# Altium integrated library Analog Devices Data Converters Digital-to-Analog Converters.IntLib: 2231 symbols (part 72 of 181)
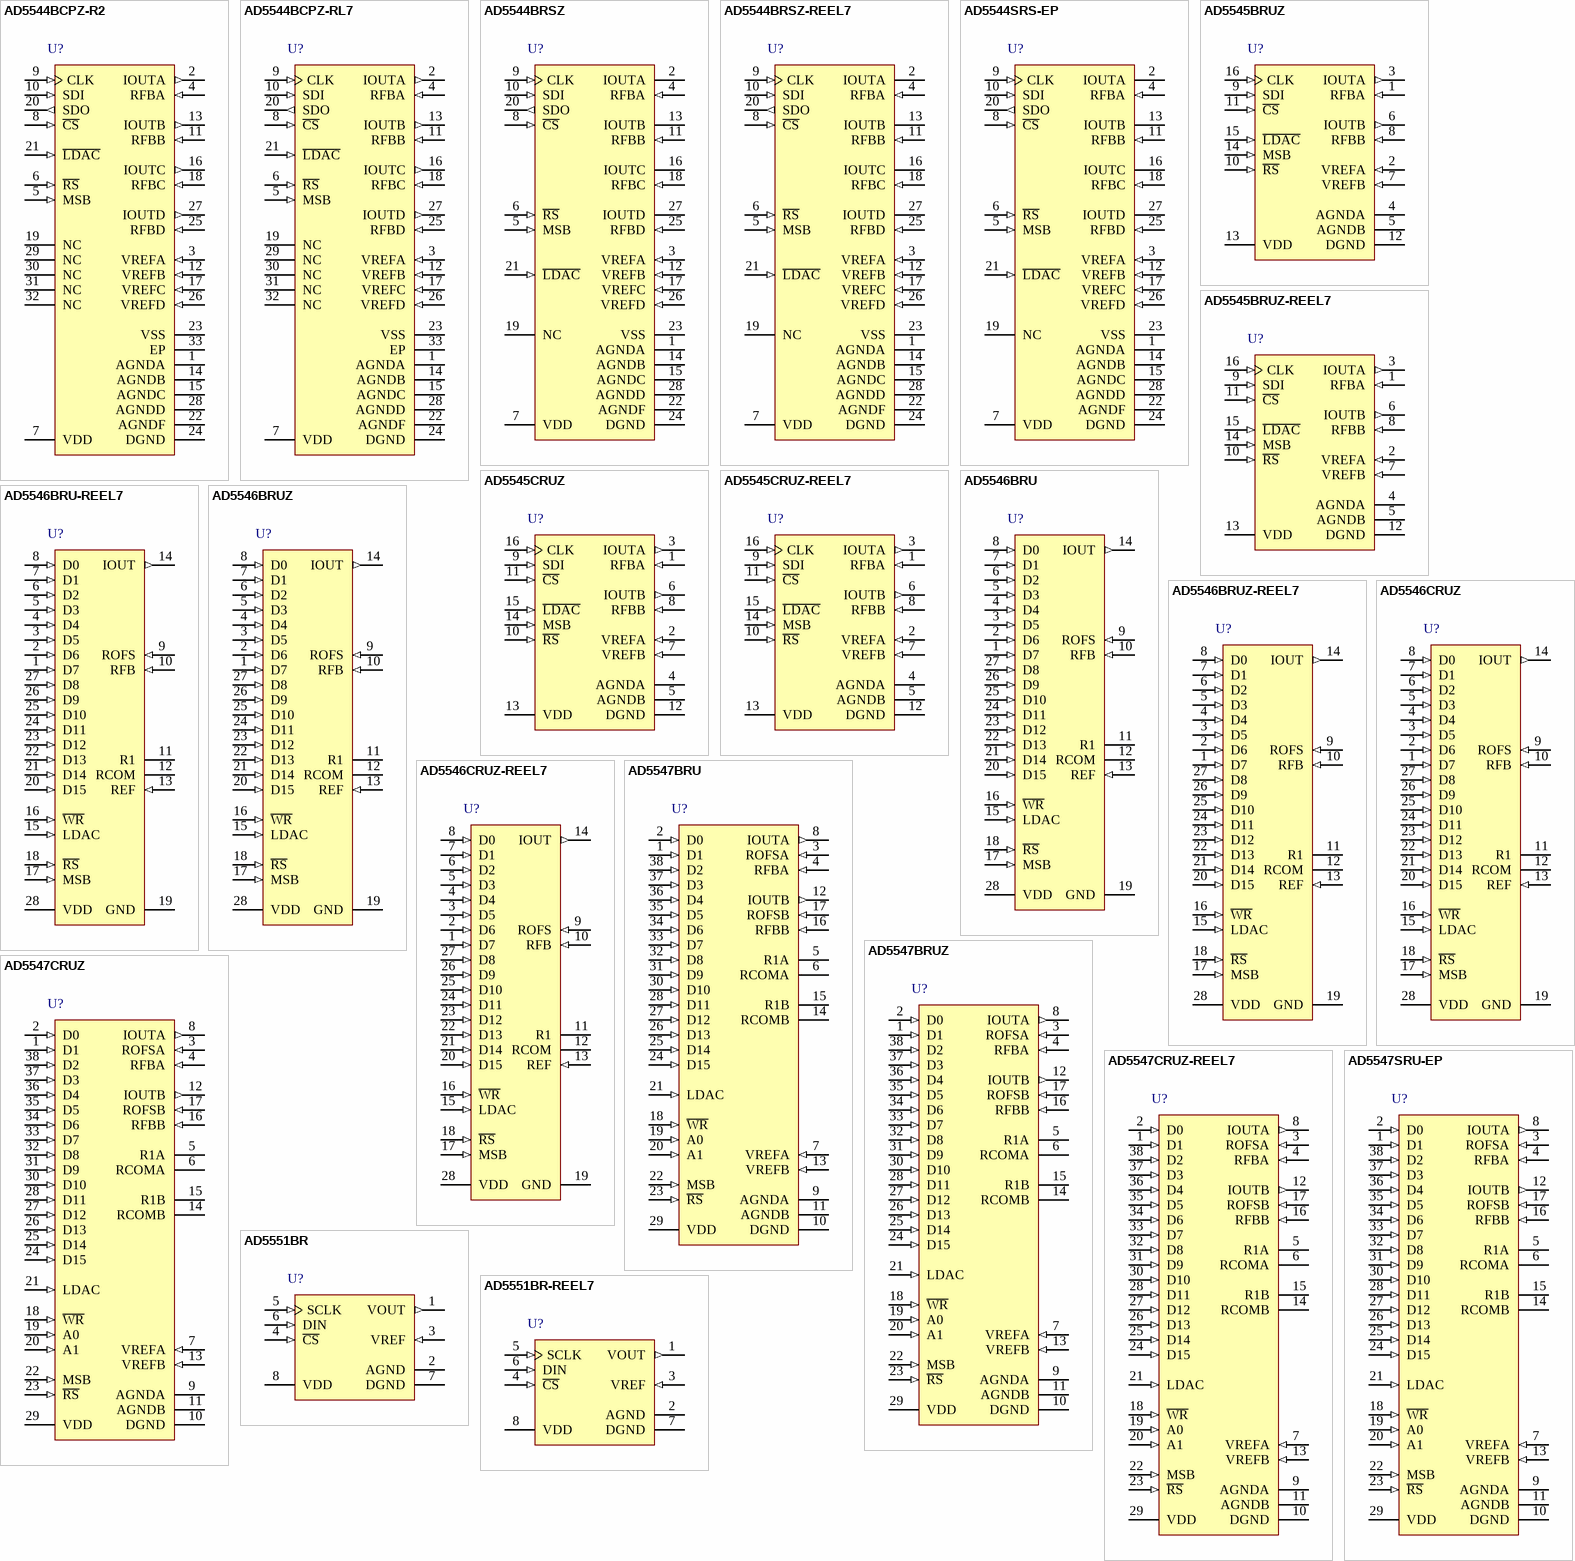
[diagram p185: symbols AD5544BCPZ-R2 to AD5551BR-REEL7]

## AD5544BCPZ-RL7
designator U?
Quad 16-Bit Digital-to-Analog Converter with Serial Interface, -40 to +125 degC, CP-32-11, Pb-Free, Reel; Generic Part Number: AD5544; Manufacturer: Analog Devices; PartNumber: AD5544BCPZ-RL7; # DAC Outputs: 4; Max V+: 5.5V; Op Pwr Diss: 1.25mW; Resolution (Bits): 16; Settling Time: 900ns; Single Supply: Yes; DatasheetVersion: Rev.F; PackageVersion: 011708-A; PackageReference: CP-32-11; PackageDescription: 32-Lead Lead Frame Chip Scale Package [LFCSP_VQ] 5 x 5 mm Body, Very Thin Quad; Supplier 1: Mouser; Supplier Part Number 1: N/A; Packing: Reel; RoHS: Y; Mounting Technology: Surface Mount; ComponentLink1Description: Manufacturer URL; ComponentLink1URL: http://www.analog.com/en/index.html; ComponentLink2Description: Datasheet; ComponentLink2URL: http://www.analog.com/static/imported-files/data_sheets/AD5544_5554.pdf; ComponentLink3Description: Package Specification; ComponentLink3URL: http://www.analog.com/static/imported-files/packages/PKG_PDF/LFCSP(CP)/CP-32/CP_32_11.pdf; ComponentLink4Description: Product URL; ComponentLink4URL: http://www.analog.com/en/digital-to-analog-converters/da-converters/ad5544/products/product.html
footprint CP-32-11_N (QFN, 32-Leads, Body 5x5mm, Pitch 0.5mm, Thermal Pad 3.6x3.6mm, IPC Medium Density)
footprint CP-32-11_L (QFN, 32-Leads, Body 5x5mm, Pitch 0.5mm, Thermal Pad 3.6x3.6mm, IPC High Density)
footprint CP-32-11_M (QFN, 32-Leads, Body 5x5mm, Pitch 0.5mm, Thermal Pad 3.6x3.6mm, IPC Low Density)
pins: 1 AGNDA (power) "DAC A Analog Ground.", 2 IOUTA (out) "DAC A Current Output.", 3 VREFA (in) "DAC A Reference Voltage Input Terminal. Establishes DAC A full-scale output voltage. This pin can be tied to the VDD pin.", 4 RFBA (in) "Establish the voltage output for DAC A by connecting to an external amplifier output.", 5 MSB (in) "MSB Bit. Set pin during a reset pulse (R\S\) or at system power-on if tied to ground or VDD.", 6 ~{RS} (in) "Reset Pin, Active Low Input. Input registers and DAC registers are set to all 0s or half-scale code (0x8000 for the AD5544 and 0x2000 for the AD5554), determined by the voltage on the MSB pin. Register data = 0x0000 when MSB (See Datasheet)", 7 VDD (power) "Positive Power Supply Input. Specified range of operation: 5 V +/- 10%.", 8 ~{CS} (in) "Chip Select, Active Low Input. Disables shift register loading when high. Transfers serial register data to the input register when C\S\/L\D\A\C\ returns high. Does not affect L\D\A\C\ operation.", 9 CLK (in) "Clock Input. Positive edge clocks data into the shift register.", 10 SDI (in) "Serial Data Input. Input data loads directly into the shift register.", 11 RFBB (in) "Establish the voltage output for DAC B by connecting to an external amplifier output.", 12 VREFB (in) "DAC B Reference Voltage Input Terminal. Establishes DAC B full-scale output voltage. This pin can be tied to the VDD pin.", 13 IOUTB (out) "DAC B Current Output.", 14 AGNDB (power) "DAC B Analog Ground.", 15 AGNDC (power) "DAC C Analog Ground.", 16 IOUTC (out) "DAC C Current Output.", 17 VREFC (in) "DAC C Reference Voltage Input Terminal. Establishes DAC C full-scale output voltage. This pin can be tied to the VDD pin.", 18 RFBC (in) "Establish the voltage output for DAC C by connecting to an external amplifier output.", 19 NC "No Connect. Leave the pin unconnected.", 20 SDO (out) "Serial Data Output. Input data loads directly into the shift register. Data appears at SDO at 19 clock pulses for the AD5544 and 17 clock pulses for the AD5554 after input at the SDI pin.", 21 ~{LDAC} (in) "Load DAC Register Strobe, Level Sensitive Active Low. Transfers all input register data to DAC registers. Asynchronous active low input. See Table 8 and Table 9 for operation.", 22 AGNDF (power) "High Current Analog Force Ground.", 23 VSS (power) "Negative Bias Power Supply Input. Specified range of operation: -5.5 V to +0.3 V.", 24 DGND (power) "Digital Ground Pin.", 25 RFBD (in) "Establish the voltage output for DAC D by connecting to an external amplifier output.", 26 VREFD (in) "DAC D Reference Voltage Input Terminal. Establishes DAC D full-scale output voltage. This pin can be tied to the VDD pin.", 27 IOUTD (out) "DAC D Current Output.", 28 AGNDD (power) "DAC D Analog Ground.", 29 NC "Do not connect.", 30 NC "Do not connect.", 31 NC "Do not connect.", 32 NC "Do not connect.", 33 EP (power) "Connect the exposed pad to AGNDx."

## AD5544BRSZ
designator U?
Quad 16-Bit Digital-to-Analog Converter with Serial Interface, -40 to +125 degC, RS-28, Pb-Free, Tube; Generic Part Number: AD5544; Manufacturer: Analog Devices; PartNumber: AD5544BRSZ; # DAC Outputs: 4; Max V+: 5.5V; Op Pwr Diss: 1.25mW; Resolution (Bits): 16; Settling Time: 900ns; Single Supply: Yes; DatasheetVersion: Rev.F; PackageVersion: 060106-A; PackageReference: RS-28; PackageDescription: 28-Lead Shrink Small Outline Package [SSOP]; Supplier 1: Digi-Key; Supplier Part Number 1: AD5544BRSZ-ND; Supplier 2: Newark; Supplier Part Number 2: 51R0720; Supplier 3: Mouser; Supplier Part Number 3: 584-AD5544BRSZ; Packing: Tube; RoHS: Y; Mounting Technology: Surface Mount; Code_JEDEC: MO-150-AH; ComponentLink1Description: Manufacturer URL; ComponentLink1URL: http://www.analog.com/en/index.html; ComponentLink2Description: Datasheet; ComponentLink2URL: http://www.analog.com/static/imported-files/data_sheets/AD5544_5554.pdf; ComponentLink3Description: Package Specification; ComponentLink3URL: http://www.analog.com/static/imported-files/packages/32122249223724RS_28.pdf; ComponentLink4Description: Product URL; ComponentLink4URL: http://www.analog.com/en/digital-to-analog-converters/da-converters/ad5544/products/product.html
footprint RS-28_N (SOP, 28-Leads, Body 10.2x5.3mm, Pitch 0.65mm, IPC Medium Density)
footprint RS-28_L (SOP, 28-Leads, Body 10.2x5.3mm, Pitch 0.65mm, IPC High Density)
footprint RS-28_M (SOP, 28-Leads, Body 10.2x5.3mm, Pitch 0.65mm, IPC Low Density)
pins: 1 AGNDA (power) "DAC A Analog Ground.", 2 IOUTA "DAC A Current Output.", 3 VREFA (in) "DAC A Reference Voltage Input Terminal. Establishes DAC A full-scale output voltage. This pin can be tied to the VDD pin.", 4 RFBA (in) "Establish the voltage output for DAC A by connecting to an external amplifier output.", 5 MSB (in) "MSB Bit. Set pin during a reset pulse (R\S\) or at system power-on if tied to ground or VDD.", 6 ~{RS} (in) "Reset Pin, Active Low Input. Input registers and DAC registers are set to all 0s or half-scale code (0x8000 for the AD5544 and 0x2000 for the AD5554), determined by the voltage on the MSB pin. Register data = 0x0000 when MSB (See Datasheet)", 7 VDD (power) "Positive Power Supply Input. Specified range of operation: 5 V +/- 10%.", 8 ~{CS} (in) "Chip Select, Active Low Input. Disables shift register loading when high. Transfers serial register data to the input register when C\S\/L\D\A\C\ returns high. Does not affect L\D\A\C\ operation.", 9 CLK (in) "Clock Input. Positive edge clocks data into the shift register.", 10 SDI (in) "Serial Data Input. Input data loads directly into the shift register", 11 RFBB (in) "Establish the voltage output for DAC B by connecting to an external amplifier output.", 12 VREFB (in) "DAC B Reference Voltage Input Terminal. Establishes DAC B full-scale output voltage. This pin can be tied to the VDD pin.", 13 IOUTB "DAC B Current Output.", 14 AGNDB (power) "DAC B Analog Ground.", 15 AGNDC (power) "DAC C Analog Ground.", 16 IOUTC "DAC C Current Output.", 17 VREFC (in) "DAC C Reference Voltage Input Terminal. Establishes DAC C full-scale output voltage. This pin can be tied to the VDD pin.", 18 RFBC (in) "Establish the voltage output for DAC C by connecting to an external amplifier output", 19 NC "No Connect. Leave the pin unconnected.", 20 SDO (out) "Serial Data Output. Input data loads directly into the shift register. Data appears at SDO at 19 clock pulses for the AD5544 and 17 clock pulses for the AD5554 after input at the SDI pin.", 21 ~{LDAC} (in) "Load DAC Register Strobe, Level Sensitive Active Low. Transfers all input register data to DAC registers. Asynchronous active low input. See Table 8 and Table 9 for operation.", 22 AGNDF (power) "High Current Analog Force Ground.", 23 VSS (power) "Negative Bias Power Supply Input. Specified range of operation: -5.5 V to +0.3 V.", 24 DGND (power) "Digital Ground Pin.", 25 RFBD (in) "Establish the voltage output for DAC D by connecting to an external amplifier output.", 26 VREFD (in) "DAC D Reference Voltage Input Terminal. Establishes DAC D full-scale output voltage. This pin can be tied to the VDD pin.", 27 IOUTD "DAC D Current Output.", 28 AGNDD (power) "DAC D Analog Ground."

## AD5544BRSZ-REEL7
designator U?
Quad 16-Bit Digital-to-Analog Converter with Serial Interface, -40 to +125 degC, RS-28, Pb-Free, Reel; Generic Part Number: AD5544; Manufacturer: Analog Devices; PartNumber: AD5544BRSZ-REEL7; # DAC Outputs: 4; Max V+: 5.5V; Op Pwr Diss: 1.25mW; Resolution (Bits): 16; Settling Time: 900ns; Single Supply: Yes; DatasheetVersion: Rev.F; PackageVersion: 060106-A; PackageReference: RS-28; PackageDescription: 28-Lead Shrink Small Outline Package [SSOP]; Supplier 1: Digi-Key; Supplier Part Number 1: AD5544BRSZ-REEL7-ND; Supplier 2: Newark; Supplier Part Number 2: 51R0721; Supplier 3: Mouser; Supplier Part Number 3: 584-AD5544BRSZ-R7; Packing: Reel; RoHS: Y; Mounting Technology: Surface Mount; Code_JEDEC: MO-150-AH; ComponentLink1Description: Manufacturer URL; ComponentLink1URL: http://www.analog.com/en/index.html; ComponentLink2Description: Datasheet; ComponentLink2URL: http://www.analog.com/static/imported-files/data_sheets/AD5544_5554.pdf; ComponentLink3Description: Package Specification; ComponentLink3URL: http://www.analog.com/static/imported-files/packages/32122249223724RS_28.pdf; ComponentLink4Description: Product URL; ComponentLink4URL: http://www.analog.com/en/digital-to-analog-converters/da-converters/ad5544/products/product.html
footprint RS-28_N (SOP, 28-Leads, Body 10.2x5.3mm, Pitch 0.65mm, IPC Medium Density)
footprint RS-28_L (SOP, 28-Leads, Body 10.2x5.3mm, Pitch 0.65mm, IPC High Density)
footprint RS-28_M (SOP, 28-Leads, Body 10.2x5.3mm, Pitch 0.65mm, IPC Low Density)
pins: 1 AGNDA (power) "DAC A Analog Ground.", 2 IOUTA "DAC A Current Output.", 3 VREFA (in) "DAC A Reference Voltage Input Terminal. Establishes DAC A full-scale output voltage. This pin can be tied to the VDD pin.", 4 RFBA (in) "Establish the voltage output for DAC A by connecting to an external amplifier output.", 5 MSB (in) "MSB Bit. Set pin during a reset pulse (R\S\) or at system power-on if tied to ground or VDD.", 6 ~{RS} (in) "Reset Pin, Active Low Input. Input registers and DAC registers are set to all 0s or half-scale code (0x8000 for the AD5544 and 0x2000 for the AD5554), determined by the voltage on the MSB pin. Register data = 0x0000 when MSB (See Datasheet)", 7 VDD (power) "Positive Power Supply Input. Specified range of operation: 5 V +/- 10%.", 8 ~{CS} (in) "Chip Select, Active Low Input. Disables shift register loading when high. Transfers serial register data to the input register when C\S\/L\D\A\C\ returns high. Does not affect L\D\A\C\ operation.", 9 CLK (in) "Clock Input. Positive edge clocks data into the shift register.", 10 SDI (in) "Serial Data Input. Input data loads directly into the shift register", 11 RFBB (in) "Establish the voltage output for DAC B by connecting to an external amplifier output.", 12 VREFB (in) "DAC B Reference Voltage Input Terminal. Establishes DAC B full-scale output voltage. This pin can be tied to the VDD pin.", 13 IOUTB "DAC B Current Output.", 14 AGNDB (power) "DAC B Analog Ground.", 15 AGNDC (power) "DAC C Analog Ground.", 16 IOUTC "DAC C Current Output.", 17 VREFC (in) "DAC C Reference Voltage Input Terminal. Establishes DAC C full-scale output voltage. This pin can be tied to the VDD pin.", 18 RFBC (in) "Establish the voltage output for DAC C by connecting to an external amplifier output", 19 NC "No Connect. Leave the pin unconnected.", 20 SDO (out) "Serial Data Output. Input data loads directly into the shift register. Data appears at SDO at 19 clock pulses for the AD5544 and 17 clock pulses for the AD5554 after input at the SDI pin.", 21 ~{LDAC} (in) "Load DAC Register Strobe, Level Sensitive Active Low. Transfers all input register data to DAC registers. Asynchronous active low input. See Table 8 and Table 9 for operation.", 22 AGNDF (power) "High Current Analog Force Ground.", 23 VSS (power) "Negative Bias Power Supply Input. Specified range of operation: -5.5 V to +0.3 V.", 24 DGND (power) "Digital Ground Pin.", 25 RFBD (in) "Establish the voltage output for DAC D by connecting to an external amplifier output.", 26 VREFD (in) "DAC D Reference Voltage Input Terminal. Establishes DAC D full-scale output voltage. This pin can be tied to the VDD pin.", 27 IOUTD "DAC D Current Output.", 28 AGNDD (power) "DAC D Analog Ground."

## AD5544SRS-EP
designator U?
Quad 16-Bit Digital-to-Analog Converter with Serial Interface, -55 to +125 degC, RS-28, Tube; Generic Part Number: AD5544; Manufacturer: Analog Devices; PartNumber: AD5544SRS-EP; # DAC Outputs: 4; Max V+: 5.5V; Op Pwr Diss: 1.25mW; Resolution (Bits): 16; Settling Time: 900ns; Single Supply: Yes; DatasheetVersion: Rev.0; PackageVersion: 060106-A; PackageReference: RS-28; PackageDescription: 28-Lead Shrink Small Outline Package [SSOP]; Supplier 1: Digi-Key; Supplier Part Number 1: AD5544SRS-EP-ND; Supplier 2: Mouser; Supplier Part Number 2: 584-AD5544SRS-EP; Packing: Tube; RoHS: N; Mounting Technology: Surface Mount; Code_JEDEC: MO-150-AH; ComponentLink1Description: Manufacturer URL; ComponentLink1URL: http://www.analog.com/en/index.html; ComponentLink2Description: Datasheet; ComponentLink2URL: http://www.analog.com/static/imported-files/data_sheets/AD5544-EP.pdf; ComponentLink3Description: Package Specification; ComponentLink3URL: http://www.analog.com/static/imported-files/packages/32122249223724RS_28.pdf; ComponentLink4Description: Product URL; ComponentLink4URL: http://www.analog.com/en/digital-to-analog-converters/da-converters/ad5544/products/product.html
footprint RS-28_N (SOP, 28-Leads, Body 10.2x5.3mm, Pitch 0.65mm, IPC Medium Density)
footprint RS-28_L (SOP, 28-Leads, Body 10.2x5.3mm, Pitch 0.65mm, IPC High Density)
footprint RS-28_M (SOP, 28-Leads, Body 10.2x5.3mm, Pitch 0.65mm, IPC Low Density)
pins: 1 AGNDA (power) "DAC A Analog Ground.", 2 IOUTA "DAC A Current Output.", 3 VREFA (in) "DAC A Reference Voltage Input Terminal. Establishes DAC A full-scale output voltage. This pin can be tied to the VDD pin.", 4 RFBA (in) "Establish the voltage output for DAC A by connecting to an external amplifier output.", 5 MSB (in) "MSB Bit. Set pin during a reset pulse (R\S\) or at system power-on if tied to ground or VDD.", 6 ~{RS} (in) "Reset Pin, Active Low Input. Input registers and DAC registers are set to all 0s or half-scale code (0x8000 for the AD5544 and 0x2000 for the AD5554), determined by the voltage on the MSB pin. Register data = 0x0000 when MSB (See Datasheet)", 7 VDD (power) "Positive Power Supply Input. Specified range of operation: 5 V +/- 10%.", 8 ~{CS} (in) "Chip Select, Active Low Input. Disables shift register loading when high. Transfers serial register data to the input register when C\S\/L\D\A\C\ returns high. Does not affect L\D\A\C\ operation.", 9 CLK (in) "Clock Input. Positive edge clocks data into the shift register.", 10 SDI (in) "Serial Data Input. Input data loads directly into the shift register", 11 RFBB (in) "Establish the voltage output for DAC B by connecting to an external amplifier output.", 12 VREFB (in) "DAC B Reference Voltage Input Terminal. Establishes DAC B full-scale output voltage. This pin can be tied to the VDD pin.", 13 IOUTB "DAC B Current Output.", 14 AGNDB (power) "DAC B Analog Ground.", 15 AGNDC (power) "DAC C Analog Ground.", 16 IOUTC "DAC C Current Output.", 17 VREFC (in) "DAC C Reference Voltage Input Terminal. Establishes DAC C full-scale output voltage. This pin can be tied to the VDD pin.", 18 RFBC (in) "Establish the voltage output for DAC C by connecting to an external amplifier output", 19 NC "No Connect. Leave the pin unconnected.", 20 SDO (out) "Serial Data Output. Input data loads directly into the shift register. Data appears at SDO at 19 clock pulses for the AD5544 and 17 clock pulses for the AD5554 after input at the SDI pin.", 21 ~{LDAC} (in) "Load DAC Register Strobe, Level Sensitive Active Low. Transfers all input register data to DAC registers. Asynchronous active low input. See Table 8 and Table 9 for operation.", 22 AGNDF (power) "High Current Analog Force Ground.", 23 VSS (power) "Negative Bias Power Supply Input. Specified range of operation: -5.5 V to +0.3 V.", 24 DGND (power) "Digital Ground Pin.", 25 RFBD (in) "Establish the voltage output for DAC D by connecting to an external amplifier output.", 26 VREFD (in) "DAC D Reference Voltage Input Terminal. Establishes DAC D full-scale output voltage. This pin can be tied to the VDD pin.", 27 IOUTD "DAC D Current Output.", 28 AGNDD (power) "DAC D Analog Ground."

## AD5545BRUZ
designator U?
Dual 16-Bit Digital-to-Analog Converter with Serial Interface, -40 to +85 degC, RU-16, Pb-Free, Tube; Generic Part Number: AD5545; Manufacturer: Analog Devices; PartNumber: AD5545BRUZ; # DAC Outputs: 2; Max V+: 5.5V; Op Pwr Diss: 55µW; Resolution (Bits): 16; Settling Time: 500ns; Single Supply: Yes; DatasheetVersion: Rev.E; PackageVersion: Nov-2002; PackageReference: RU-16; PackageDescription: 16-Lead Thin Shrink Small Outline Package [TSSOP]; Supplier 1: Digi-Key; Supplier Part Number 1: AD5545BRUZ-ND; Supplier 2: Farnell; Supplier Part Number 2: 2305674; Supplier 3: Newark; Supplier Part Number 3: 84W7401; Supplier 4: Newark; Supplier Part Number 4: 28M3992; Supplier 5: Mouser; Supplier Part Number 5: 584-AD5545BRUZ; Packing: Tube; RoHS: Y; Mounting Technology: Surface Mount; Code_JEDEC: MO-153-AB; ComponentLink1Description: Manufacturer URL; ComponentLink1URL: http://www.analog.com/en/index.html; ComponentLink2Description: Datasheet; ComponentLink2URL: http://www.analog.com/static/imported-files/data_sheets/AD5545_5555.pdf; ComponentLink3Description: Package Specification; ComponentLink3URL: http://www.analog.com/static/imported-files/packages/36244347913743854010197452789RU16.pdf; ComponentLink4Description: Product URL; ComponentLink4URL: http://www.analog.com/en/digital-to-analog-converters/da-converters/ad5545/products/product.html
footprint RU-16_N (TSOP, 16-Leads, Body 5x4.4mm, Pitch 0.65mm, IPC Medium Density)
footprint RU-16_L (TSOP, 16-Leads, Body 5x4.4mm, Pitch 0.65mm, IPC High Density)
footprint RU-16_M (TSOP, 16-Leads, Body 5x4.4mm, Pitch 0.65mm, IPC Low Density)
pins: 1 RFBA (in) "Establish voltage output for DAC A by connecting this pin to an external amplifier output", 2 VREFA (in) "DAC A Reference Voltage Input Terminal. Establishes DAC A full-scale output voltage. This pin can be tied to the VDD pin.", 3 IOUTA (out) "DAC A Current Output.", 4 AGNDA (power) "DAC A Analog Ground.", 5 AGNDB (power) "DAC B Analog Ground.", 6 IOUTB (out) "DAC B Current Output.", 7 VREFB (in) "DAC B Reference Voltage Input Terminal. Establishes DAC B full-scale output voltage. This pin can be tied to the VDD pin.", 8 RFBB (in) "Establish voltage output for DAC B by the RFBB pin connecting to an external amplifier output.", 9 SDI (in) "Serial Data Input. Input data loads directly into the shift register.", 10 ~{RS} (in) "Reset Pin, Active Low Input. Input registers and DAC registers are set to all 0s or midscale. Register Data = 0x0000 when MSB = 0. Register Data = 0x8000 for AD5545 and 0x2000 for AD5555 when MSB = 1.", 11 ~{CS} (in) "Chip Select, Active Low Input. Disables shift register loading when high. Transfers serial register data to the input register when C\S\/L\D\A\C\ returns high. This does not affect L\D\A\C\ operation.", 12 DGND (power) "Digital Ground Pin.", 13 VDD (power) "Positive Power Supply Input. Specified range of operation 5 V +/- 10% or 3 V +/- 10%.", 14 MSB (in) "MSB bit sets output to either 0 or midscale during a RESET pulse (R\S\) or at system power-on. Output equals zero scale when MSB = 0 and midscale when MSB = 1. MSB pin can also be tied permanently to ground or VDD.", 15 ~{LDAC} (in) "Load DAC Register Strobe, Level Sensitive Active Low. Transfers all input register data to DAC registers. Asynchronous active low input. See Table 7 and Table 8 for operation.", 16 CLK (in) "Clock Input. Positive edge clocks data into shift register"

## AD5545BRUZ-REEL7
designator U?
Dual 16-Bit Digital-to-Analog Converter with Serial Interface, -40 to +85 degC, RU-16, Pb-Free, Reel; Generic Part Number: AD5545; Manufacturer: Analog Devices; PartNumber: AD5545BRUZ-REEL7; # DAC Outputs: 2; Max V+: 5.5V; Op Pwr Diss: 55µW; Resolution (Bits): 16; Settling Time: 500ns; Single Supply: Yes; DatasheetVersion: Rev.E; PackageVersion: Nov-2002; PackageReference: RU-16; PackageDescription: 16-Lead Thin Shrink Small Outline Package [TSSOP]; Supplier 1: Digi-Key; Supplier Part Number 1: AD5545BRUZ-REEL7-ND; Supplier 2: Newark; Supplier Part Number 2: 28M3993; Supplier 3: Mouser; Supplier Part Number 3: 584-AD5545BRUZ-R7; Packing: Reel; RoHS: Y; Mounting Technology: Surface Mount; Code_JEDEC: MO-153-AB; ComponentLink1Description: Manufacturer URL; ComponentLink1URL: http://www.analog.com/en/index.html; ComponentLink2Description: Datasheet; ComponentLink2URL: http://www.analog.com/static/imported-files/data_sheets/AD5545_5555.pdf; ComponentLink3Description: Package Specification; ComponentLink3URL: http://www.analog.com/static/imported-files/packages/36244347913743854010197452789RU16.pdf; ComponentLink4Description: Product URL; ComponentLink4URL: http://www.analog.com/en/digital-to-analog-converters/da-converters/ad5545/products/product.html
footprint RU-16_N (TSOP, 16-Leads, Body 5x4.4mm, Pitch 0.65mm, IPC Medium Density)
footprint RU-16_L (TSOP, 16-Leads, Body 5x4.4mm, Pitch 0.65mm, IPC High Density)
footprint RU-16_M (TSOP, 16-Leads, Body 5x4.4mm, Pitch 0.65mm, IPC Low Density)
pins: 1 RFBA (in) "Establish voltage output for DAC A by connecting this pin to an external amplifier output", 2 VREFA (in) "DAC A Reference Voltage Input Terminal. Establishes DAC A full-scale output voltage. This pin can be tied to the VDD pin.", 3 IOUTA (out) "DAC A Current Output.", 4 AGNDA (power) "DAC A Analog Ground.", 5 AGNDB (power) "DAC B Analog Ground.", 6 IOUTB (out) "DAC B Current Output.", 7 VREFB (in) "DAC B Reference Voltage Input Terminal. Establishes DAC B full-scale output voltage. This pin can be tied to the VDD pin.", 8 RFBB (in) "Establish voltage output for DAC B by the RFBB pin connecting to an external amplifier output.", 9 SDI (in) "Serial Data Input. Input data loads directly into the shift register.", 10 ~{RS} (in) "Reset Pin, Active Low Input. Input registers and DAC registers are set to all 0s or midscale. Register Data = 0x0000 when MSB = 0. Register Data = 0x8000 for AD5545 and 0x2000 for AD5555 when MSB = 1.", 11 ~{CS} (in) "Chip Select, Active Low Input. Disables shift register loading when high. Transfers serial register data to the input register when C\S\/L\D\A\C\ returns high. This does not affect L\D\A\C\ operation.", 12 DGND (power) "Digital Ground Pin.", 13 VDD (power) "Positive Power Supply Input. Specified range of operation 5 V +/- 10% or 3 V +/- 10%.", 14 MSB (in) "MSB bit sets output to either 0 or midscale during a RESET pulse (R\S\) or at system power-on. Output equals zero scale when MSB = 0 and midscale when MSB = 1. MSB pin can also be tied permanently to ground or VDD.", 15 ~{LDAC} (in) "Load DAC Register Strobe, Level Sensitive Active Low. Transfers all input register data to DAC registers. Asynchronous active low input. See Table 7 and Table 8 for operation.", 16 CLK (in) "Clock Input. Positive edge clocks data into shift register"

## AD5545CRUZ
designator U?
Dual 16-Bit Digital-to-Analog Converter with Serial Interface, -40 to +85 degC, RU-16, Pb-Free, Tube; Generic Part Number: AD5545; Manufacturer: Analog Devices; PartNumber: AD5545CRUZ; # DAC Outputs: 2; Max V+: 5.5V; Op Pwr Diss: 55µW; Resolution (Bits): 16; Settling Time: 500ns; Single Supply: Yes; DatasheetVersion: Rev.E; PackageVersion: Nov-2002; PackageReference: RU-16; PackageDescription: 16-Lead Thin Shrink Small Outline Package [TSSOP]; Supplier 1: Digi-Key; Supplier Part Number 1: AD5545CRUZ-ND; Supplier 2: Farnell; Supplier Part Number 2: 2192230; Supplier 3: Newark; Supplier Part Number 3: 51R0722; Supplier 4: Mouser; Supplier Part Number 4: 584-AD5545CRUZ; Packing: Tube; RoHS: Y; Mounting Technology: Surface Mount; Code_JEDEC: MO-153-AB; ComponentLink1Description: Manufacturer URL; ComponentLink1URL: http://www.analog.com/en/index.html; ComponentLink2Description: Datasheet; ComponentLink2URL: http://www.analog.com/static/imported-files/data_sheets/AD5545_5555.pdf; ComponentLink3Description: Package Specification; ComponentLink3URL: http://www.analog.com/static/imported-files/packages/36244347913743854010197452789RU16.pdf; ComponentLink4Description: Product URL; ComponentLink4URL: http://www.analog.com/en/digital-to-analog-converters/da-converters/ad5545/products/product.html
footprint RU-16_N (TSOP, 16-Leads, Body 5x4.4mm, Pitch 0.65mm, IPC Medium Density)
footprint RU-16_L (TSOP, 16-Leads, Body 5x4.4mm, Pitch 0.65mm, IPC High Density)
footprint RU-16_M (TSOP, 16-Leads, Body 5x4.4mm, Pitch 0.65mm, IPC Low Density)
pins: 1 RFBA (in) "Establish voltage output for DAC A by connecting this pin to an external amplifier output", 2 VREFA (in) "DAC A Reference Voltage Input Terminal. Establishes DAC A full-scale output voltage. This pin can be tied to the VDD pin.", 3 IOUTA (out) "DAC A Current Output.", 4 AGNDA (power) "DAC A Analog Ground.", 5 AGNDB (power) "DAC B Analog Ground.", 6 IOUTB (out) "DAC B Current Output.", 7 VREFB (in) "DAC B Reference Voltage Input Terminal. Establishes DAC B full-scale output voltage. This pin can be tied to the VDD pin.", 8 RFBB (in) "Establish voltage output for DAC B by the RFBB pin connecting to an external amplifier output.", 9 SDI (in) "Serial Data Input. Input data loads directly into the shift register.", 10 ~{RS} (in) "Reset Pin, Active Low Input. Input registers and DAC registers are set to all 0s or midscale. Register Data = 0x0000 when MSB = 0. Register Data = 0x8000 for AD5545 and 0x2000 for AD5555 when MSB = 1.", 11 ~{CS} (in) "Chip Select, Active Low Input. Disables shift register loading when high. Transfers serial register data to the input register when C\S\/L\D\A\C\ returns high. This does not affect L\D\A\C\ operation.", 12 DGND (power) "Digital Ground Pin.", 13 VDD (power) "Positive Power Supply Input. Specified range of operation 5 V +/- 10% or 3 V +/- 10%.", 14 MSB (in) "MSB bit sets output to either 0 or midscale during a RESET pulse (R\S\) or at system power-on. Output equals zero scale when MSB = 0 and midscale when MSB = 1. MSB pin can also be tied permanently to ground or VDD.", 15 ~{LDAC} (in) "Load DAC Register Strobe, Level Sensitive Active Low. Transfers all input register data to DAC registers. Asynchronous active low input. See Table 7 and Table 8 for operation.", 16 CLK (in) "Clock Input. Positive edge clocks data into shift register"

## AD5545CRUZ-REEL7
designator U?
Dual 16-Bit Digital-to-Analog Converter with Serial Interface, -40 to +85 degC, RU-16, Pb-Free, Reel; Generic Part Number: AD5545; Manufacturer: Analog Devices; PartNumber: AD5545CRUZ-REEL7; # DAC Outputs: 2; Max V+: 5.5V; Op Pwr Diss: 55µW; Resolution (Bits): 16; Settling Time: 500ns; Single Supply: Yes; DatasheetVersion: Rev.E; PackageVersion: Nov-2002; PackageReference: RU-16; PackageDescription: 16-Lead Thin Shrink Small Outline Package [TSSOP]; Supplier 1: Digi-Key; Supplier Part Number 1: AD5545CRUZ-REEL7-ND; Supplier 2: Mouser; Supplier Part Number 2: 584-AD5545CRUZ-R7; Packing: Reel; RoHS: Y; Mounting Technology: Surface Mount; Code_JEDEC: MO-153-AB; ComponentLink1Description: Manufacturer URL; ComponentLink1URL: http://www.analog.com/en/index.html; ComponentLink2Description: Datasheet; ComponentLink2URL: http://www.analog.com/static/imported-files/data_sheets/AD5545_5555.pdf; ComponentLink3Description: Package Specification; ComponentLink3URL: http://www.analog.com/static/imported-files/packages/36244347913743854010197452789RU16.pdf; ComponentLink4Description: Product URL; ComponentLink4URL: http://www.analog.com/en/digital-to-analog-converters/da-converters/ad5545/products/product.html
footprint RU-16_N (TSOP, 16-Leads, Body 5x4.4mm, Pitch 0.65mm, IPC Medium Density)
footprint RU-16_L (TSOP, 16-Leads, Body 5x4.4mm, Pitch 0.65mm, IPC High Density)
footprint RU-16_M (TSOP, 16-Leads, Body 5x4.4mm, Pitch 0.65mm, IPC Low Density)
pins: 1 RFBA (in) "Establish voltage output for DAC A by connecting this pin to an external amplifier output", 2 VREFA (in) "DAC A Reference Voltage Input Terminal. Establishes DAC A full-scale output voltage. This pin can be tied to the VDD pin.", 3 IOUTA (out) "DAC A Current Output.", 4 AGNDA (power) "DAC A Analog Ground.", 5 AGNDB (power) "DAC B Analog Ground.", 6 IOUTB (out) "DAC B Current Output.", 7 VREFB (in) "DAC B Reference Voltage Input Terminal. Establishes DAC B full-scale output voltage. This pin can be tied to the VDD pin.", 8 RFBB (in) "Establish voltage output for DAC B by the RFBB pin connecting to an external amplifier output.", 9 SDI (in) "Serial Data Input. Input data loads directly into the shift register.", 10 ~{RS} (in) "Reset Pin, Active Low Input. Input registers and DAC registers are set to all 0s or midscale. Register Data = 0x0000 when MSB = 0. Register Data = 0x8000 for AD5545 and 0x2000 for AD5555 when MSB = 1.", 11 ~{CS} (in) "Chip Select, Active Low Input. Disables shift register loading when high. Transfers serial register data to the input register when C\S\/L\D\A\C\ returns high. This does not affect L\D\A\C\ operation.", 12 DGND (power) "Digital Ground Pin.", 13 VDD (power) "Positive Power Supply Input. Specified range of operation 5 V +/- 10% or 3 V +/- 10%.", 14 MSB (in) "MSB bit sets output to either 0 or midscale during a RESET pulse (R\S\) or at system power-on. Output equals zero scale when MSB = 0 and midscale when MSB = 1. MSB pin can also be tied permanently to ground or VDD.", 15 ~{LDAC} (in) "Load DAC Register Strobe, Level Sensitive Active Low. Transfers all input register data to DAC registers. Asynchronous active low input. See Table 7 and Table 8 for operation.", 16 CLK (in) "Clock Input. Positive edge clocks data into shift register"

## AD5546BRU
designator U?
Single 16-Bit Multiplying Digital-to-Analog Converter with Parallel Interface and Four-Quadrant Resistors, -40 to +125 degC, RU-28, Tube; Generic Part Number: AD5546; Manufacturer: Analog Devices; PartNumber: AD5546BRU; # DAC Outputs: 1; Max V+: 5.5V; Op Pwr Diss: 55µW; Resolution (Bits): 16; Settling Time: 500ns; Single Supply: Yes; DatasheetVersion: Rev.D; PackageVersion: 2005; PackageReference: RU-28; PackageDescription: 28-Lead Thin Shrink Small Outline Package [TSSOP]; Supplier 1: Digi-Key; Supplier Part Number 1: AD5546BRU-ND; Supplier 2: Mouser; Supplier Part Number 2: 584-AD5546BRU; Packing: Tube; RoHS: N; Mounting Technology: Surface Mount; Code_JEDEC: MO-153-AE; ComponentLink1Description: Manufacturer URL; ComponentLink1URL: http://www.analog.com/en/index.html; ComponentLink2Description: Datasheet; ComponentLink2URL: http://www.analog.com/static/imported-files/data_sheets/AD5546_5556.pdf; ComponentLink3Description: Package Specification; ComponentLink3URL: http://www.analog.com/static/imported-files/packages/249854663RU_28.pdf; ComponentLink4Description: Product URL; ComponentLink4URL: http://www.analog.com/en/digital-to-analog-converters/da-converters/ad5546/products/product.html; ComponentLink5Description: Reference Design URL; ComponentLink5URL: http://www.analog.com/en/digital-to-analog-converters/da-converters/ad5546/products/product.html#prod_cross_sell
footprint RU-28_N (TSOP, 28-Leads, Body 9.7x4.4mm, Pitch 0.65mm, IPC Medium Density)
footprint RU-28_L (TSOP, 28-Leads, Body 9.7x4.4mm, Pitch 0.65mm, IPC High Density)
footprint RU-28_M (TSOP, 28-Leads, Body 9.7x4.4mm, Pitch 0.65mm, IPC Low Density)
pins: 1 D7 (in) "Digital Input Data Bit D7. The signal level must be =< VDD + 0.3 V.", 2 D6 (in) "Digital Input Data Bit D6. The signal level must be =< VDD + 0.3 V.", 3 D5 (in) "Digital Input Data Bit D5. The signal level must be =< VDD + 0.3 V.", 4 D4 (in) "Digital Input Data Bit D4. The signal level must be =< VDD + 0.3 V.", 5 D3 (in) "Digital Input Data Bit D3. The signal level must be =< VDD + 0.3 V.", 6 D2 (in) "Digital Input Data Bit D2. The signal level must be =< VDD + 0.3 V.", 7 D1 (in) "Digital Input Data Bit D1. The signal level must be =< VDD + 0.3 V.", 8 D0 (in) "Digital Input Data Bit D0. The signal level must be =< VDD + 0.3 V.", 9 ROFS (in) "Bipolar Offset Resistor. Accepts up to +/-18 V. In two-quadrant mode, ties to RFB. In four-quadrant mode, ties to R1 and the external reference.", 10 RFB (in) "Internal Matching Feedback Resistor. Connects to the output of an external op amp for I-V conversion.", 11 R1 "Four-Quadrant Resistor R1. In two-quadrant mode, shorts to the REF pin. In four-quadrant mode, ties to ROFS.", 12 RCOM "Center Tap Point of Two Four-Quadrant Resistors, R1 and R2. In four-quadrant mode, ties to the inverting node of the reference amplifier. In two-quadrant mode, shorts to the REF pin.", 13 REF (in) "DAC Reference Input in Two-Quadrant Mode and R2 Terminal in Four-Quadrant Mode. In two-quadrant mode, this pin is the reference input with constant input resistance vs. code. In four-quadrant mode, this pin is driven by the (See Datasheet)", 14 IOUT (out) "DAC Current Output. Connects to the inverting node of an external op amp for I-V conversion.", 15 LDAC (in) "Digital Input Load DAC Control. Signal level must be =< VDD + 0.3 V.", 16 ~{WR} (in) "Write Control Digital Input in Active Low. Transfers shift-register data to the DAC register on the rising edge. The signal level must be . VDD + 0.3 V.", 17 MSB (in) "Power-On Reset State. MSB = 0 resets at zero scale; MSB = 1 resets at midscale. The signal level must be =< VDD + 0.3 V.", 18 ~{RS} (in) "Reset in Active Low. Resets to zero scale if MSB = 0, and resets to midscale if MSB = 1. The signal level must be =< VDD + 0.3 V.", 19 GND (power) "Analog and Digital Grounds.", 20 D15 (in) "Digital Input Data Bit D15. The signal level must be =< VDD + 0.3 V.", 21 D14 (in) "Digital Input Data Bit D14. The signal level must be =< VDD + 0.3 V.", 22 D13 (in) "Digital Input Data Bit D13. The signal level must be =< VDD + 0.3 V.", 23 D12 (in) "Digital Input Data Bit D12. The signal level must be =< VDD + 0.3 V.", 24 D11 (in) "Digital Input Data Bit D11. The signal level must be =< VDD + 0.3 V.", 25 D10 (in) "Digital Input Data Bit D10. The signal level must be =< VDD + 0.3 V.", 26 D9 (in) "Digital Input Data Bit D9. The signal level must be =< VDD + 0.3 V.", 27 D8 (in) "Digital Input Data Bit D8. The signal level must be =< VDD + 0.3 V.", 28 VDD (power) "Positive Power Supply Input. Specified range of operation: 2.7 V to 5.5 V."

## AD5546BRU-REEL7
designator U?
Single 16-Bit Multiplying Digital-to-Analog Converter with Parallel Interface and Four-Quadrant Resistors, -40 to +125 degC, RU-28, Reel; Generic Part Number: AD5546; Manufacturer: Analog Devices; PartNumber: AD5546BRU-REEL7; # DAC Outputs: 1; Max V+: 5.5V; Op Pwr Diss: 55µW; Resolution (Bits): 16; Settling Time: 500ns; Single Supply: Yes; DatasheetVersion: Rev.D; PackageVersion: 2005; PackageReference: RU-28; PackageDescription: 28-Lead Thin Shrink Small Outline Package [TSSOP]; Supplier 1: Digi-Key; Supplier Part Number 1: AD5546BRU-REEL7-ND; Supplier 2: Mouser; Supplier Part Number 2: 584-AD5546BRU-R7; Packing: Reel; RoHS: N; Mounting Technology: Surface Mount; Code_JEDEC: MO-153-AE; ComponentLink1Description: Manufacturer URL; ComponentLink1URL: http://www.analog.com/en/index.html; ComponentLink2Description: Datasheet; ComponentLink2URL: http://www.analog.com/static/imported-files/data_sheets/AD5546_5556.pdf; ComponentLink3Description: Package Specification; ComponentLink3URL: http://www.analog.com/static/imported-files/packages/249854663RU_28.pdf; ComponentLink4Description: Product URL; ComponentLink4URL: http://www.analog.com/en/digital-to-analog-converters/da-converters/ad5546/products/product.html; ComponentLink5Description: Reference Design URL; ComponentLink5URL: http://www.analog.com/en/digital-to-analog-converters/da-converters/ad5546/products/product.html#prod_cross_sell
footprint RU-28_N (TSOP, 28-Leads, Body 9.7x4.4mm, Pitch 0.65mm, IPC Medium Density)
footprint RU-28_L (TSOP, 28-Leads, Body 9.7x4.4mm, Pitch 0.65mm, IPC High Density)
footprint RU-28_M (TSOP, 28-Leads, Body 9.7x4.4mm, Pitch 0.65mm, IPC Low Density)
pins: 1 D7 (in) "Digital Input Data Bit D7. The signal level must be =< VDD + 0.3 V.", 2 D6 (in) "Digital Input Data Bit D6. The signal level must be =< VDD + 0.3 V.", 3 D5 (in) "Digital Input Data Bit D5. The signal level must be =< VDD + 0.3 V.", 4 D4 (in) "Digital Input Data Bit D4. The signal level must be =< VDD + 0.3 V.", 5 D3 (in) "Digital Input Data Bit D3. The signal level must be =< VDD + 0.3 V.", 6 D2 (in) "Digital Input Data Bit D2. The signal level must be =< VDD + 0.3 V.", 7 D1 (in) "Digital Input Data Bit D1. The signal level must be =< VDD + 0.3 V.", 8 D0 (in) "Digital Input Data Bit D0. The signal level must be =< VDD + 0.3 V.", 9 ROFS (in) "Bipolar Offset Resistor. Accepts up to +/-18 V. In two-quadrant mode, ties to RFB. In four-quadrant mode, ties to R1 and the external reference.", 10 RFB (in) "Internal Matching Feedback Resistor. Connects to the output of an external op amp for I-V conversion.", 11 R1 "Four-Quadrant Resistor R1. In two-quadrant mode, shorts to the REF pin. In four-quadrant mode, ties to ROFS.", 12 RCOM "Center Tap Point of Two Four-Quadrant Resistors, R1 and R2. In four-quadrant mode, ties to the inverting node of the reference amplifier. In two-quadrant mode, shorts to the REF pin.", 13 REF (in) "DAC Reference Input in Two-Quadrant Mode and R2 Terminal in Four-Quadrant Mode. In two-quadrant mode, this pin is the reference input with constant input resistance vs. code. In four-quadrant mode, this pin is driven by the (See Datasheet)", 14 IOUT (out) "DAC Current Output. Connects to the inverting node of an external op amp for I-V conversion.", 15 LDAC (in) "Digital Input Load DAC Control. Signal level must be =< VDD + 0.3 V.", 16 ~{WR} (in) "Write Control Digital Input in Active Low. Transfers shift-register data to the DAC register on the rising edge. The signal level must be . VDD + 0.3 V.", 17 MSB (in) "Power-On Reset State. MSB = 0 resets at zero scale; MSB = 1 resets at midscale. The signal level must be =< VDD + 0.3 V.", 18 ~{RS} (in) "Reset in Active Low. Resets to zero scale if MSB = 0, and resets to midscale if MSB = 1. The signal level must be =< VDD + 0.3 V.", 19 GND (power) "Analog and Digital Grounds.", 20 D15 (in) "Digital Input Data Bit D15. The signal level must be =< VDD + 0.3 V.", 21 D14 (in) "Digital Input Data Bit D14. The signal level must be =< VDD + 0.3 V.", 22 D13 (in) "Digital Input Data Bit D13. The signal level must be =< VDD + 0.3 V.", 23 D12 (in) "Digital Input Data Bit D12. The signal level must be =< VDD + 0.3 V.", 24 D11 (in) "Digital Input Data Bit D11. The signal level must be =< VDD + 0.3 V.", 25 D10 (in) "Digital Input Data Bit D10. The signal level must be =< VDD + 0.3 V.", 26 D9 (in) "Digital Input Data Bit D9. The signal level must be =< VDD + 0.3 V.", 27 D8 (in) "Digital Input Data Bit D8. The signal level must be =< VDD + 0.3 V.", 28 VDD (power) "Positive Power Supply Input. Specified range of operation: 2.7 V to 5.5 V."

## AD5546BRUZ
designator U?
Single 16-Bit Multiplying Current Output Digital-to-Analog Converter with Parallel Interface and Four-Quadrant Resistors, -40 to +125 degC, RU-28, Pb-Free, Tube; Generic Part Number: AD5546; Manufacturer: Analog Devices; PartNumber: AD5546BRUZ; # DAC Outputs: 1; Max V+: 5.5V; Op Pwr Diss: 55µW; Resolution (Bits): 16; Settling Time: 500ns; Single Supply: Yes; DatasheetVersion: Rev.D; PackageVersion: 2005; PackageReference: RU-28; PackageDescription: 28-Lead Thin Shrink Small Outline Package [TSSOP]; Supplier 1: Digi-Key; Supplier Part Number 1: AD5546BRUZ-ND; Supplier 2: Farnell; Supplier Part Number 2: 1581924; Supplier 3: Newark; Supplier Part Number 3: 15P0694; Supplier 4: Newark; Supplier Part Number 4: 59K4219; Supplier 5: Mouser; Supplier Part Number 5: 584-AD5546BRUZ; Packing: Tube; RoHS: Y; Mounting Technology: Surface Mount; Code_JEDEC: MO-153-AE; ComponentLink1Description: Manufacturer URL; ComponentLink1URL: http://www.analog.com/en/index.html; ComponentLink2Description: Datasheet; ComponentLink2URL: http://www.analog.com/static/imported-files/data_sheets/AD5546_5556.pdf; ComponentLink3Description: Package Specification; ComponentLink3URL: http://www.analog.com/static/imported-files/packages/249854663RU_28.pdf; ComponentLink4Description: Product URL; ComponentLink4URL: http://www.analog.com/en/digital-to-analog-converters/da-converters/ad5546/products/product.html; ComponentLink5Description: Reference Design URL; ComponentLink5URL: http://www.analog.com/en/digital-to-analog-converters/da-converters/ad5546/products/product.html#prod_cross_sell
footprint RU-28_N (TSOP, 28-Leads, Body 9.7x4.4mm, Pitch 0.65mm, IPC Medium Density)
footprint RU-28_L (TSOP, 28-Leads, Body 9.7x4.4mm, Pitch 0.65mm, IPC High Density)
footprint RU-28_M (TSOP, 28-Leads, Body 9.7x4.4mm, Pitch 0.65mm, IPC Low Density)
pins: 1 D7 (in) "Digital Input Data Bit D7. The signal level must be =< VDD + 0.3 V.", 2 D6 (in) "Digital Input Data Bit D6. The signal level must be =< VDD + 0.3 V.", 3 D5 (in) "Digital Input Data Bit D5. The signal level must be =< VDD + 0.3 V.", 4 D4 (in) "Digital Input Data Bit D4. The signal level must be =< VDD + 0.3 V.", 5 D3 (in) "Digital Input Data Bit D3. The signal level must be =< VDD + 0.3 V.", 6 D2 (in) "Digital Input Data Bit D2. The signal level must be =< VDD + 0.3 V.", 7 D1 (in) "Digital Input Data Bit D1. The signal level must be =< VDD + 0.3 V.", 8 D0 (in) "Digital Input Data Bit D0. The signal level must be =< VDD + 0.3 V.", 9 ROFS (in) "Bipolar Offset Resistor. Accepts up to +/-18 V. In two-quadrant mode, ties to RFB. In four-quadrant mode, ties to R1 and the external reference.", 10 RFB (in) "Internal Matching Feedback Resistor. Connects to the output of an external op amp for I-V conversion.", 11 R1 "Four-Quadrant Resistor R1. In two-quadrant mode, shorts to the REF pin. In four-quadrant mode, ties to ROFS.", 12 RCOM "Center Tap Point of Two Four-Quadrant Resistors, R1 and R2. In four-quadrant mode, ties to the inverting node of the reference amplifier. In two-quadrant mode, shorts to the REF pin.", 13 REF (in) "DAC Reference Input in Two-Quadrant Mode and R2 Terminal in Four-Quadrant Mode. In two-quadrant mode, this pin is the reference input with constant input resistance vs. code. In four-quadrant mode, this pin is driven by the (See Datasheet)", 14 IOUT (out) "DAC Current Output. Connects to the inverting node of an external op amp for I-V conversion.", 15 LDAC (in) "Digital Input Load DAC Control. Signal level must be =< VDD + 0.3 V.", 16 ~{WR} (in) "Write Control Digital Input in Active Low. Transfers shift-register data to the DAC register on the rising edge. The signal level must be . VDD + 0.3 V.", 17 MSB (in) "Power-On Reset State. MSB = 0 resets at zero scale; MSB = 1 resets at midscale. The signal level must be =< VDD + 0.3 V.", 18 ~{RS} (in) "Reset in Active Low. Resets to zero scale if MSB = 0, and resets to midscale if MSB = 1. The signal level must be =< VDD + 0.3 V.", 19 GND (power) "Analog and Digital Grounds.", 20 D15 (in) "Digital Input Data Bit D15. The signal level must be =< VDD + 0.3 V.", 21 D14 (in) "Digital Input Data Bit D14. The signal level must be =< VDD + 0.3 V.", 22 D13 (in) "Digital Input Data Bit D13. The signal level must be =< VDD + 0.3 V.", 23 D12 (in) "Digital Input Data Bit D12. The signal level must be =< VDD + 0.3 V.", 24 D11 (in) "Digital Input Data Bit D11. The signal level must be =< VDD + 0.3 V.", 25 D10 (in) "Digital Input Data Bit D10. The signal level must be =< VDD + 0.3 V.", 26 D9 (in) "Digital Input Data Bit D9. The signal level must be =< VDD + 0.3 V.", 27 D8 (in) "Digital Input Data Bit D8. The signal level must be =< VDD + 0.3 V.", 28 VDD (power) "Positive Power Supply Input. Specified range of operation: 2.7 V to 5.5 V."

## AD5546BRUZ-REEL7
designator U?
Single 16-Bit Multiplying Current Output Digital-to-Analog Converter with Parallel Interface and Four-Quadrant Resistors, -40 to +125 degC, RU-28, Pb-Free, Reel; Generic Part Number: AD5546; Manufacturer: Analog Devices; PartNumber: AD5546BRUZ-REEL7; # DAC Outputs: 1; Max V+: 5.5V; Op Pwr Diss: 55µW; Resolution (Bits): 16; Settling Time: 500ns; Single Supply: Yes; DatasheetVersion: Rev.D; PackageVersion: 2005; PackageReference: RU-28; PackageDescription: 28-Lead Thin Shrink Small Outline Package [TSSOP]; Supplier 1: Digi-Key; Supplier Part Number 1: AD5546BRUZ-REEL7-ND; Supplier 2: Mouser; Supplier Part Number 2: 584-AD5546BRUZ-R7; Packing: Reel; RoHS: Y; Mounting Technology: Surface Mount; Code_JEDEC: MO-153-AE; ComponentLink1Description: Manufacturer URL; ComponentLink1URL: http://www.analog.com/en/index.html; ComponentLink2Description: Datasheet; ComponentLink2URL: http://www.analog.com/static/imported-files/data_sheets/AD5546_5556.pdf; ComponentLink3Description: Package Specification; ComponentLink3URL: http://www.analog.com/static/imported-files/packages/249854663RU_28.pdf; ComponentLink4Description: Product URL; ComponentLink4URL: http://www.analog.com/en/digital-to-analog-converters/da-converters/ad5546/products/product.html; ComponentLink5Description: Reference Design URL; ComponentLink5URL: http://www.analog.com/en/digital-to-analog-converters/da-converters/ad5546/products/product.html#prod_cross_sell
footprint RU-28_N (TSOP, 28-Leads, Body 9.7x4.4mm, Pitch 0.65mm, IPC Medium Density)
footprint RU-28_L (TSOP, 28-Leads, Body 9.7x4.4mm, Pitch 0.65mm, IPC High Density)
footprint RU-28_M (TSOP, 28-Leads, Body 9.7x4.4mm, Pitch 0.65mm, IPC Low Density)
pins: 1 D7 (in) "Digital Input Data Bit D7. The signal level must be =< VDD + 0.3 V.", 2 D6 (in) "Digital Input Data Bit D6. The signal level must be =< VDD + 0.3 V.", 3 D5 (in) "Digital Input Data Bit D5. The signal level must be =< VDD + 0.3 V.", 4 D4 (in) "Digital Input Data Bit D4. The signal level must be =< VDD + 0.3 V.", 5 D3 (in) "Digital Input Data Bit D3. The signal level must be =< VDD + 0.3 V.", 6 D2 (in) "Digital Input Data Bit D2. The signal level must be =< VDD + 0.3 V.", 7 D1 (in) "Digital Input Data Bit D1. The signal level must be =< VDD + 0.3 V.", 8 D0 (in) "Digital Input Data Bit D0. The signal level must be =< VDD + 0.3 V.", 9 ROFS (in) "Bipolar Offset Resistor. Accepts up to +/-18 V. In two-quadrant mode, ties to RFB. In four-quadrant mode, ties to R1 and the external reference.", 10 RFB (in) "Internal Matching Feedback Resistor. Connects to the output of an external op amp for I-V conversion.", 11 R1 "Four-Quadrant Resistor R1. In two-quadrant mode, shorts to the REF pin. In four-quadrant mode, ties to ROFS.", 12 RCOM "Center Tap Point of Two Four-Quadrant Resistors, R1 and R2. In four-quadrant mode, ties to the inverting node of the reference amplifier. In two-quadrant mode, shorts to the REF pin.", 13 REF (in) "DAC Reference Input in Two-Quadrant Mode and R2 Terminal in Four-Quadrant Mode. In two-quadrant mode, this pin is the reference input with constant input resistance vs. code. In four-quadrant mode, this pin is driven by the (See Datasheet)", 14 IOUT (out) "DAC Current Output. Connects to the inverting node of an external op amp for I-V conversion.", 15 LDAC (in) "Digital Input Load DAC Control. Signal level must be =< VDD + 0.3 V.", 16 ~{WR} (in) "Write Control Digital Input in Active Low. Transfers shift-register data to the DAC register on the rising edge. The signal level must be . VDD + 0.3 V.", 17 MSB (in) "Power-On Reset State. MSB = 0 resets at zero scale; MSB = 1 resets at midscale. The signal level must be =< VDD + 0.3 V.", 18 ~{RS} (in) "Reset in Active Low. Resets to zero scale if MSB = 0, and resets to midscale if MSB = 1. The signal level must be =< VDD + 0.3 V.", 19 GND (power) "Analog and Digital Grounds.", 20 D15 (in) "Digital Input Data Bit D15. The signal level must be =< VDD + 0.3 V.", 21 D14 (in) "Digital Input Data Bit D14. The signal level must be =< VDD + 0.3 V.", 22 D13 (in) "Digital Input Data Bit D13. The signal level must be =< VDD + 0.3 V.", 23 D12 (in) "Digital Input Data Bit D12. The signal level must be =< VDD + 0.3 V.", 24 D11 (in) "Digital Input Data Bit D11. The signal level must be =< VDD + 0.3 V.", 25 D10 (in) "Digital Input Data Bit D10. The signal level must be =< VDD + 0.3 V.", 26 D9 (in) "Digital Input Data Bit D9. The signal level must be =< VDD + 0.3 V.", 27 D8 (in) "Digital Input Data Bit D8. The signal level must be =< VDD + 0.3 V.", 28 VDD (power) "Positive Power Supply Input. Specified range of operation: 2.7 V to 5.5 V."